# EAGLE library part MCF53* (library freescale)
MCF537x ColdFire® Microprocessor Source: www.freescale.com .. MCF5373DS.pdf
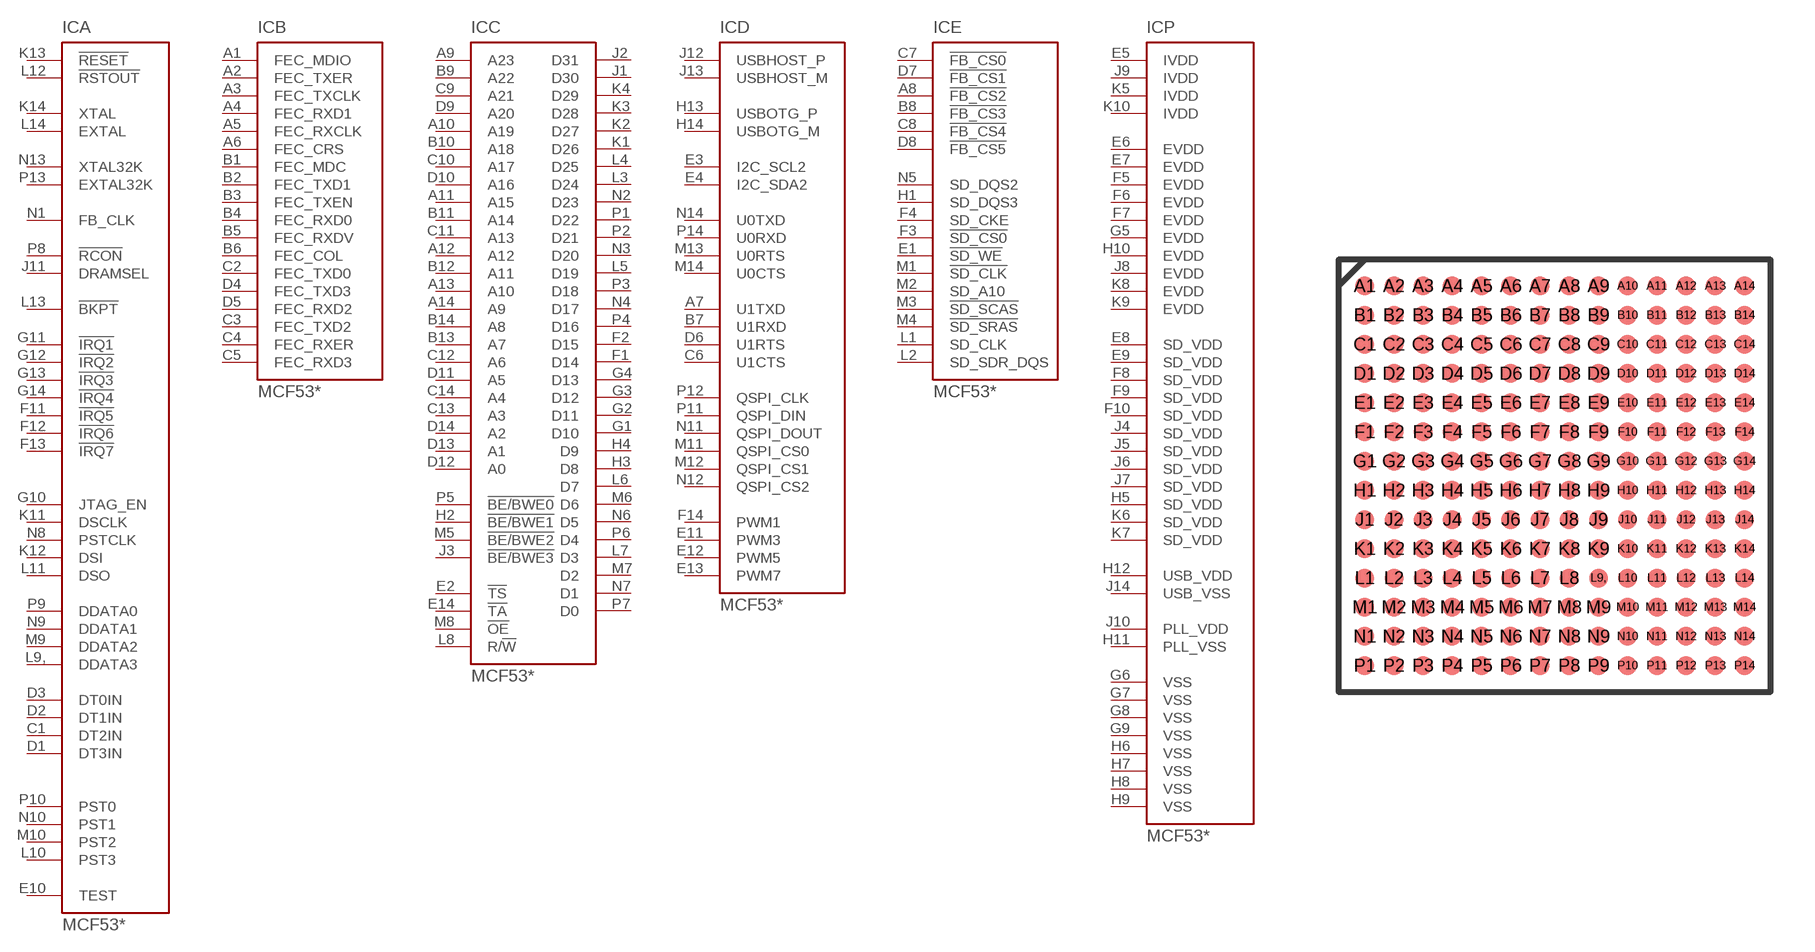
[diagram p4: symbol with the pads of MAPGBA196; footprint MAPGBA196]

Designator prefix IC; gates A=MCF537X-CONTROL B=MCF537X-FEC C=MCF537X-FLEXBUS D=MCF537X-IO E=MCF537X-SDRAM P=MCF537X-PWR

## MCF5372L, MCF5373L, MCF53271  [MAPGBA196]
A1  B:FEC_MDIO
A2  B:FEC_TXER  out
A3  B:FEC_TXCLK  in
A4  B:FEC_RXD1  in
A5  B:FEC_RXCLK  in
A6  B:FEC_CRS  in
A7  D:U1TXD  out
A8  E:!FB_CS2  out
A9  C:A23  out
A10  C:A19  out
A11  C:A15  out
A12  C:A12  out
A13  C:A10  out
A14  C:A9  out
B1  B:FEC_MDC  out
B2  B:FEC_TXD1  out
B3  B:FEC_TXEN  out
B4  B:FEC_RXD0  in
B5  B:FEC_RXDV  in
B6  B:FEC_COL  in
B7  D:U1RXD  in
B8  E:!FB_CS3  out
B9  C:A22  out
B10  C:A18  out
B11  C:A14  out
B12  C:A11  out
B13  C:A7  out
B14  C:A8  out
C1  A:DT2IN  in
C2  B:FEC_TXD0  out
C3  B:FEC_TXD2  out
C4  B:FEC_RXER  in
C5  B:FEC_RXD3  in
C6  D:U1CTS  in
C7  E:!FB_CS0  out
C8  E:!FB_CS4  out
C9  C:A21  out
C10  C:A17  out
C11  C:A13  out
C12  C:A6  out
C13  C:A3  out
C14  C:A4  out
D1  A:DT3IN  in
D2  A:DT1IN  in
D3  A:DT0IN  in
D4  B:FEC_TXD3  out
D5  B:FEC_RXD2  in
D6  D:U1RTS  out
D7  E:!FB_CS1  out
D8  E:!FB_CS5  out
D9  C:A20  out
D10  C:A16  out
D11  C:A5  out
D12  C:A0  out
D13  C:A1  out
D14  C:A2  out
E1  E:!SD_WE  out
E2  C:!TS  out
E3  D:I2C_SCL2
E4  D:I2C_SDA2
E5  P:IVDD  pwr
E6  P:EVDD  pwr
E7  P:EVDD  pwr
E8  P:SD_VDD  pwr
E9  P:SD_VDD  pwr
E10  A:TEST  in
E11  D:PWM3
E12  D:PWM5
E13  D:PWM7
E14  C:!TA  in
F1  C:D14
F2  C:D15
F3  E:!SD_CS0  out
F4  E:SD_CKE  out
F5  P:EVDD  pwr
F6  P:EVDD  pwr
F7  P:EVDD  pwr
F8  P:SD_VDD  pwr
F9  P:SD_VDD  pwr
F10  P:SD_VDD  pwr
F11  A:!IRQ5  in
F12  A:!IRQ6  in
F13  A:!IRQ7  in
F14  D:PWM1
G1  C:D10
G2  C:D11
G3  C:D12
G4  C:D13
G5  P:EVDD  pwr
G6  P:VSS  pwr
G7  P:VSS  pwr
G8  P:VSS  pwr
G9  P:VSS  pwr
G10  A:JTAG_EN  in
G11  A:!IRQ1  in
G12  A:!IRQ2  in
G13  A:!IRQ3  in
G14  A:!IRQ4  in
H1  E:SD_DQS3  out
H2  C:!BE/BWE1  out
H3  C:D8
H4  C:D9
H5  P:SD_VDD  pwr
H6  P:VSS  pwr
H7  P:VSS  pwr
H8  P:VSS  pwr
H9  P:VSS  pwr
H10  P:EVDD  pwr
H11  P:PLL_VSS  pwr
H12  P:USB_VDD  pwr
H13  D:USBOTG_P
H14  D:USBOTG_M
J1  C:D30
J2  C:D31
J3  C:!BE/BWE3  out
J4  P:SD_VDD  pwr
J5  P:SD_VDD  pwr
J6  P:SD_VDD  pwr
J7  P:SD_VDD  pwr
J8  P:EVDD  pwr
J9  P:IVDD  pwr
J10  P:PLL_VDD  pwr
J11  A:DRAMSEL  in
J12  D:USBHOST_P
J13  D:USBHOST_M
J14  P:USB_VSS  pwr
K1  C:D26
K2  C:D27
K3  C:D28
K4  C:D29
K5  P:IVDD  pwr
K6  P:SD_VDD  pwr
K7  P:SD_VDD  pwr
K8  P:EVDD  pwr
K9  P:EVDD  pwr
K10  P:IVDD  pwr
K11  A:DSCLK  in
K12  A:DSI  in
K13  A:!RESET  in
K14  A:XTAL  out
L1  E:SD_CLK  out
L2  E:SD_SDR_DQS  out
L3  C:D24
L4  C:D25
L5  C:D19
L6  C:D7
L7  C:D3
L8  C:R/!W  out
L9,  A:DDATA3  out
L10  A:PST3  out
L11  A:DSO  out
L12  A:!RSTOUT  out
L13  A:!BKPT  in
L14  A:EXTAL  in
M1  E:!SD_CLK  out
M2  E:SD_A10  out
M3  E:!SD_SCAS  out
M4  E:!SD_SRAS  out
M5  C:!BE/BWE2  out
M6  C:D6
M7  C:D2
M8  C:!OE  out
M9  A:DDATA2  out
M10  A:PST2  out
M11  D:QSPI_CS0  out
M12  D:QSPI_CS1  out
M13  D:U0RTS  out
M14  D:U0CTS  in
N1  A:FB_CLK  out
N2  C:D23
N3  C:D20
N4  C:D17
N5  E:SD_DQS2  out
N6  C:D5
N7  C:D1
N8  A:PSTCLK  out
N9  A:DDATA1  out
N10  A:PST1  out
N11  D:QSPI_DOUT  out
N12  D:QSPI_CS2  out
N13  A:XTAL32K  out
N14  D:U0TXD  out
P1  C:D22
P2  C:D21
P3  C:D18
P4  C:D16
P5  C:!BE/BWE0  out
P6  C:D4
P7  C:D0
P8  A:!RCON  in
P9  A:DDATA0  out
P10  A:PST0  out
P11  D:QSPI_DIN  in
P12  D:QSPI_CLK  out
P13  A:EXTAL32K  in
P14  D:U0RXD  in

## Footprint MAPGBA196 (pad centres in mm)
smd 0.65 x 0.65: A1 -6.5,6.5; A2 -5.5,6.5; A3 -4.5,6.5; A4 -3.5,6.5; A5 -2.5,6.5; A6 -1.5,6.5; A7 -0.5,6.5; A8 0.5,6.5; A9 1.5,6.5; A10 2.5,6.5; A11 3.5,6.5; A12 4.5,6.5; A13 5.5,6.5; A14 6.5,6.5; B1 -6.5,5.5; B2 -5.5,5.5; B3 -4.5,5.5; B4 -3.5,5.5; B5 -2.5,5.5; B6 -1.5,5.5; B7 -0.5,5.5; B8 0.5,5.5; B9 1.5,5.5; B10 2.5,5.5; B11 3.5,5.5; B12 4.5,5.5; B13 5.5,5.5; B14 6.5,5.5; C1 -6.5,4.5; C2 -5.5,4.5; C3 -4.5,4.5; C4 -3.5,4.5; C5 -2.5,4.5; C6 -1.5,4.5; C7 -0.5,4.5; C8 0.5,4.5; C9 1.5,4.5; C10 2.5,4.5; C11 3.5,4.5; C12 4.5,4.5; C13 5.5,4.5; C14 6.5,4.5; D1 -6.5,3.5; D2 -5.5,3.5; D3 -4.5,3.5; D4 -3.5,3.5; D5 -2.5,3.5; D6 -1.5,3.5; D7 -0.5,3.5; D8 0.5,3.5; D9 1.5,3.5; D10 2.5,3.5; D11 3.5,3.5; D12 4.5,3.5; D13 5.5,3.5; D14 6.5,3.5; E1 -6.5,2.5; E2 -5.5,2.5; E3 -4.5,2.5; E4 -3.5,2.5; E5 -2.5,2.5; E6 -1.5,2.5; E7 -0.5,2.5; E8 0.5,2.5; E9 1.5,2.5; E10 2.5,2.5; E11 3.5,2.5; E12 4.5,2.5; E13 5.5,2.5; E14 6.5,2.5; F1 -6.5,1.5; F2 -5.5,1.5; F3 -4.5,1.5; F4 -3.5,1.5; F5 -2.5,1.5; F6 -1.5,1.5; F7 -0.5,1.5; F8 0.5,1.5; F9 1.5,1.5; F10 2.5,1.5; F11 3.5,1.5; F12 4.5,1.5; F13 5.5,1.5; F14 6.5,1.5; G1 -6.5,0.5; G2 -5.5,0.5; G3 -4.5,0.5; G4 -3.5,0.5; G5 -2.5,0.5; G6 -1.5,0.5; G7 -0.5,0.5; G8 0.5,0.5; G9 1.5,0.5; G10 2.5,0.5; G11 3.5,0.5; G12 4.5,0.5; G13 5.5,0.5; G14 6.5,0.5; H1 -6.5,-0.5; H2 -5.5,-0.5; H3 -4.5,-0.5; H4 -3.5,-0.5; H5 -2.5,-0.5; H6 -1.5,-0.5; H7 -0.5,-0.5; H8 0.5,-0.5; H9 1.5,-0.5; H10 2.5,-0.5; H11 3.5,-0.5; H12 4.5,-0.5; H13 5.5,-0.5; H14 6.5,-0.5; J1 -6.5,-1.5; J2 -5.5,-1.5; J3 -4.5,-1.5; J4 -3.5,-1.5; J5 -2.5,-1.5; J6 -1.5,-1.5; J7 -0.5,-1.5; J8 0.5,-1.5; J9 1.5,-1.5; J10 2.5,-1.5; J11 3.5,-1.5; J12 4.5,-1.5; J13 5.5,-1.5; J14 6.5,-1.5; K1 -6.5,-2.5; K2 -5.5,-2.5; K3 -4.5,-2.5; K4 -3.5,-2.5; K5 -2.5,-2.5; K6 -1.5,-2.5; K7 -0.5,-2.5; K8 0.5,-2.5; K9 1.5,-2.5; K10 2.5,-2.5; K11 3.5,-2.5; K12 4.5,-2.5; K13 5.5,-2.5; K14 6.5,-2.5; L1 -6.5,-3.5; L2 -5.5,-3.5; L3 -4.5,-3.5; L4 -3.5,-3.5; L5 -2.5,-3.5; L6 -1.5,-3.5; L7 -0.5,-3.5; L8 0.5,-3.5; L9, 1.5,-3.5; L10 2.5,-3.5; L11 3.5,-3.5; L12 4.5,-3.5; L13 5.5,-3.5; L14 6.5,-3.5; M1 -6.5,-4.5; M2 -5.5,-4.5; M3 -4.5,-4.5; M4 -3.5,-4.5; M5 -2.5,-4.5; M6 -1.5,-4.5; M7 -0.5,-4.5; M8 0.5,-4.5; M9 1.5,-4.5; M10 2.5,-4.5; M11 3.5,-4.5; M12 4.5,-4.5; M13 5.5,-4.5; M14 6.5,-4.5; N1 -6.5,-5.5; N2 -5.5,-5.5; N3 -4.5,-5.5; N4 -3.5,-5.5; N5 -2.5,-5.5; N6 -1.5,-5.5; N7 -0.5,-5.5; N8 0.5,-5.5; N9 1.5,-5.5; N10 2.5,-5.5; N11 3.5,-5.5; N12 4.5,-5.5; N13 5.5,-5.5; N14 6.5,-5.5; P1 -6.5,-6.5; P2 -5.5,-6.5; P3 -4.5,-6.5; P4 -3.5,-6.5; P5 -2.5,-6.5; P6 -1.5,-6.5; P7 -0.5,-6.5; P8 0.5,-6.5; P9 1.5,-6.5; P10 2.5,-6.5; P11 3.5,-6.5; P12 4.5,-6.5; P13 5.5,-6.5; P14 6.5,-6.5